# EAGLE library part ESP32-WROOM-32 (library ClintonLib)
WiFi & Bluetooth/BLE SoM 2.7-3.6V, -40-80C, 4MB flash, 12b ADC, 8b DAC (IO 25, 26) (1.3MB Flash & 327kB RAM in Arduino) 80mA avg, 500mA PSU minimum, 0.1uF + 10uF caps recommended NOTE REQUIRED PIN STATES ON BOOT: IO 0 (Flash, DNU), IO 2 (Float, or low), IO 4 (Doesn't matter?), IO 5(High), IO 12 (Low), IO 15 (High) NOTE PINS HIGH ON BOOT: IO 1, 3, 5, 6-11, 14, 15 Datasheet <https://www.espressif.com/sites/default/files/documentation/esp32-wroom-32_datasheet_en.pdf> Digikey <https://www.digikey.com/product-detail/en/espressif-systems/ESP32-WROOM-32/1904-1010-1-ND/8544305> Mouser <https://www.mouser.com/ProductDetail/Espressif-Systems/ESP32-WROOM-32?qs=chTDxNqvsyltcwz%2FUUJDtQ%3D%3D>
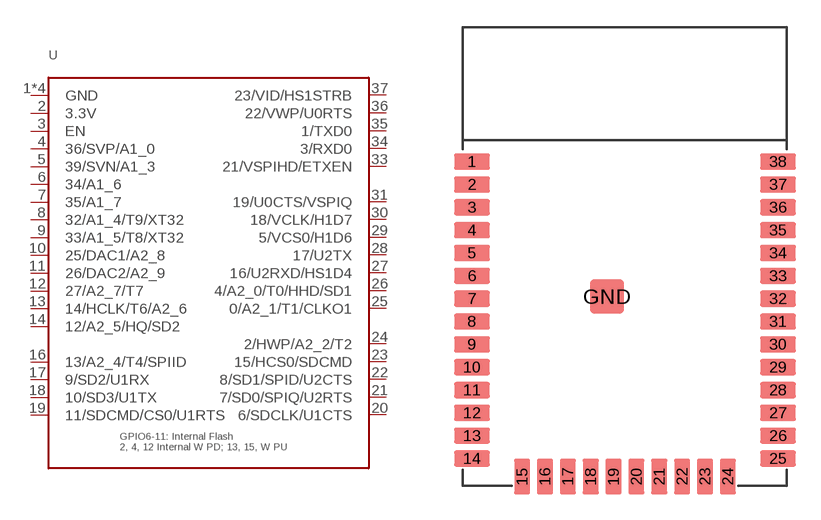
[diagram p32: symbol with the pads of ESP32-WROOM32; footprint ESP32-WROOM32]

Designator prefix -

## ESP32-WROOM-32  [ESP32-WROOM32]
1  GND
2  3.3V
3  EN
4  36/SVP/A1_0
5  39/SVN/A1_3
6  34/A1_6
7  35/A1_7
8  32/A1_4/T9/XT32
9  33/A1_5/T8/XT32
10  25/DAC1/A2_8
11  26/DAC2/A2_9
12  27/A2_7/T7
13  14/HCLK/T6/A2_6
14  12/A2_5/HQ/SD2
15  GND
16  13/A2_4/T4/SPIID
17  9/SD2/U1RX
18  10/SD3/U1TX
19  11/SDCMD/CS0/U1RTS
20  6/SDCLK/U1CTS
21  7/SD0/SPIQ/U2RTS
22  8/SD1/SPID/U2CTS
23  15/HCS0/SDCMD
24  2/HWP/A2_2/T2
25  0/A2_1/T1/CLKO1
26  4/A2_0/T0/HHD/SD1
27  16/U2RXD/HS1D4
28  17/U2TX
29  5/VCS0/H1D6
30  18/VCLK/H1D7
31  19/U0CTS/VSPIQ
33  21/VSPIHD/ETXEN
34  3/RXD0
35  1/TXD0
36  22/VWP/U0RTS
37  23/VID/HS1STRB
38  GND
GND  GND

## Footprint ESP32-WROOM32 (pad centres in mm)
smd 2 x 0.9: 1 0,16.51; 2 0,15.24; 3 0,13.97; 4 0,12.7; 5 0,11.43; 6 0,10.16; 7 0,8.89; 8 0,7.62; 9 0,6.35; 10 0,5.08; 11 0,3.81; 12 0,2.54; 13 0,1.27; 14 0,0; 25 17,0; 26 17,1.27; 27 17,2.54; 28 17,3.81; 29 17,5.08; 30 17,6.35; 31 17,7.62; 32 17,8.89; 33 17,10.16; 34 17,11.43; 35 17,12.7; 36 17,13.97; 37 17,15.24; 38 17,16.51
smd 0.9 x 2: 15 2.785,-1; 16 4.055,-1; 17 5.325,-1; 18 6.595,-1; 19 7.865,-1; 20 9.135,-1; 21 10.405,-1; 22 11.675,-1; 23 12.945,-1; 24 14.215,-1
smd 1.905 x 1.905: GND 7.5,9.01